# EAGLE library part 2908-05WB-MG (library 2908-05WB-MG)
Memory Card Connectors MICROSD 8P P/P SMT POLARIZED Source: Datasheet <https://componentsearchengine.com/Datasheets/1/2908-05WB-MG.pdf>
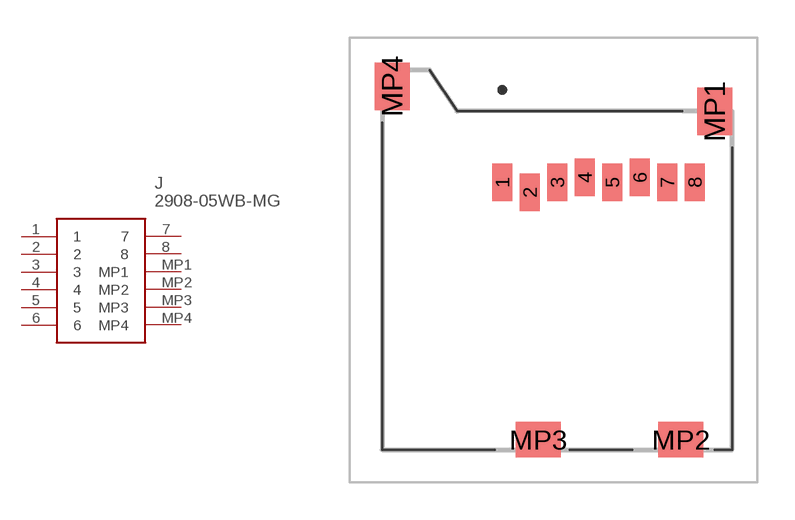
[diagram p0: symbol with the pads of 290805WBMG; footprint 290805WBMG]

Designator prefix J

## 2908-05WB-MG (Description: Memory Card Connectors MICROSD 8P P/P SMT POLARIZED; Height: 1.85mm; Manufacturer_Name: 3M; Manufacturer_Part_Number: 2908-05WB-MG; Mouser_Part_Number: 517-2908-05WB-MG; Mouser_Price-Stock: https://www.mouser.co.uk/ProductDetail/3M-Electronic-Solutions-Division/2908-05WB-MG?qs=vnwGVgFuQiZPJoOt79ALlw%3D%3D)  [290805WBMG]
1  1
2  2
3  3
4  4
5  5
6  6
7  7
8  8
MP1  MP1
MP2  MP2
MP3  MP3
MP4  MP4

## Footprint 290805WBMG (pad centres in mm)
2908-05WB-MG-2
smd 0.8 x 1.5: 1 -2.04,3.1; 2 -0.94,2.7; 3 0.16,3.1; 4 1.26,3.3; 5 2.36,3.1; 6 3.46,3.3; 7 4.56,3.1; 8 5.66,3.1
smd 1.4 x 1.9: MP1 6.45,5.95; MP4 -6.45,6.95
smd 1.8 x 1.4: MP2 5.1,-7.2; MP3 -0.6,-7.2